# Altium schematic symbol library ETHERNET.SchLib: 7 symbols
Pins are listed as number, name and electrical type; pins without a type are passive.

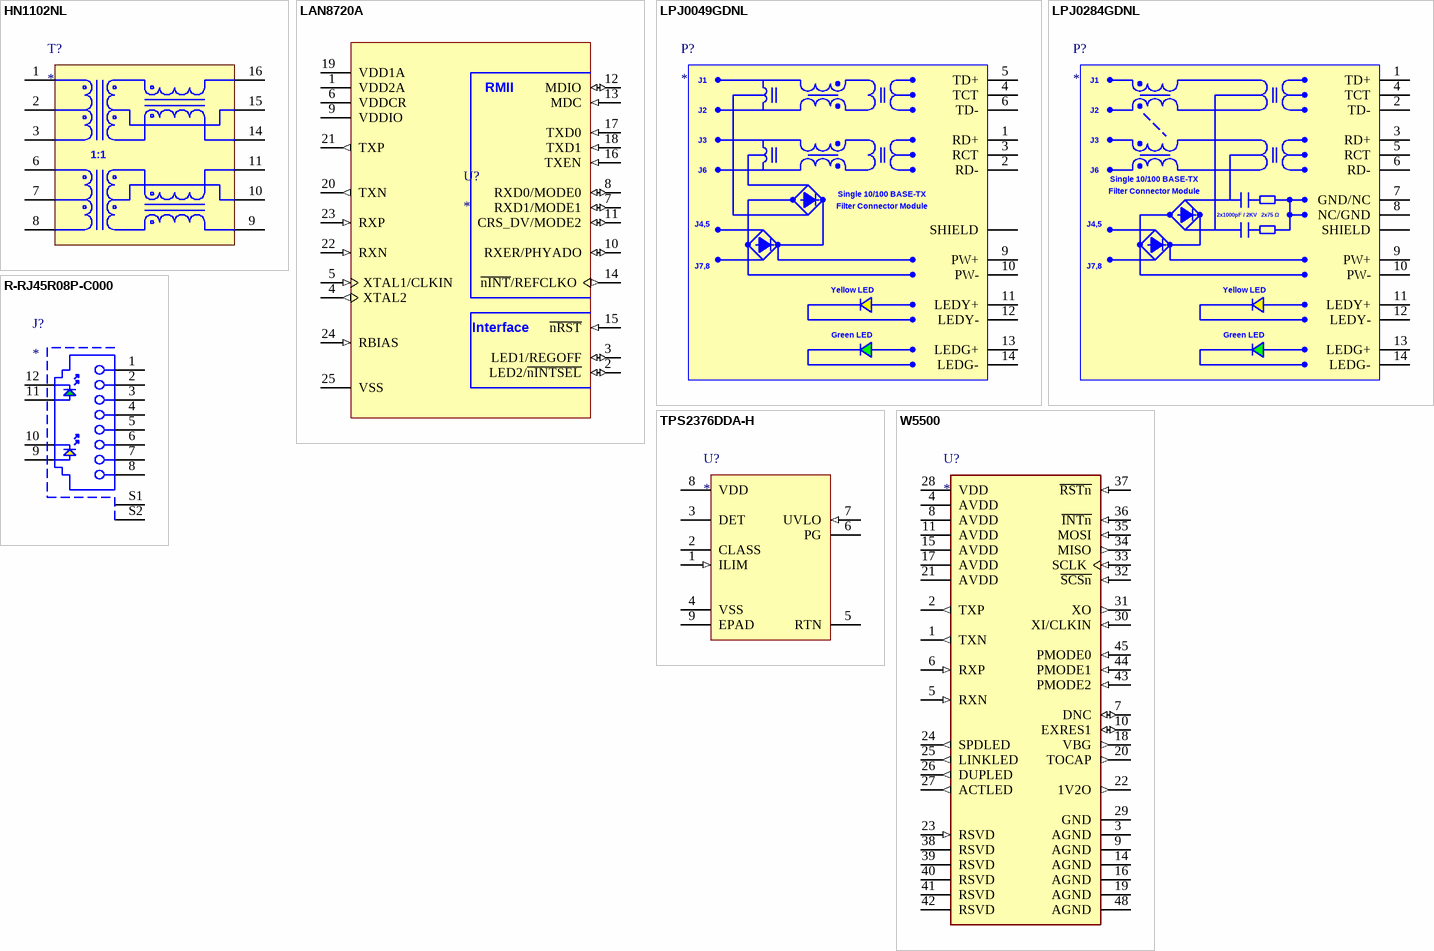
[diagram p0: symbols HN1102NL to W5500]

## HN1102NL
designator T?
footprint H1102NL
pins: 1 TD+, 2 CT, 3 TD-, 6 RD+, 7 CT, 8 RD-, 9 RX-, 10 NC, 11 RX+, 14 TX-, 15 NC, 16 TX+
text: 1:1

## LAN8720A
designator U?
Ethernet Transceivers 1.6V ~ 3.6V IEEE 802.3, 10/100 Base-T/TX PHY RMII QFN-24 Ethernet ICs ROHS; MF: {'manufacturer': u'Microchip Technology'}; MP: LAN8720A-CP; Value: *; Package: None; Price: None; Availability: Unavailable
footprint LAN8720A (Ethernet Transceivers 1.6V ~ 3.6V IEEE 802.3, 10/100 Base-T/TX PHY RMII QFN-24 Ethernet ICs ROHS)
pins: 1 VDD2A (power), 2 LED2/~{nINTSEL} (io), 3 LED1/REGOFF (io), 4 XTAL2 (out), 5 XTAL1/CLKIN (in), 6 VDDCR (power), 7 RXD1/MODE1 (io), 8 RXD0/MODE0 (io), 9 VDDIO (power), 10 RXER/PHYADO (io), 11 CRS_DV/MODE2 (io), 12 MDIO (io), 13 MDC (in), 14 ~{nINT}/REFCLKO (out), 15 ~{nRST} (in), 16 TXEN (in), 17 TXD0 (in), 18 TXD1 (in), 19 VDD1A (power), 20 TXN (out), 21 TXP (out), 22 RXN (in), 23 RXP (in), 24 RBIAS (in), 25 VSS (power)
text: RMII; Interface

## LPJ0049GDNL
designator P?
10/100 Base-T Tab Down Yellow/Green Led 1 Port POE RJ45 Connector
footprint POE_RJ45 (10/100 Base-T Tab Down Yellow/Green Led 1 Port POE RJ45)
pins: 0 SHIELD, 1 RD+, 2 RD-, 3 RCT, 4 TCT, 5 TD+, 6 TD-, 9 PW+, 10 PW-, 11 LEDY+, 12 LEDY-, 13 LEDG+, 14 LEDG-
text: J1; J2; J3; J6; Single 10/100 BASE-TX; Filter Connector Module; J4,5; J7,8; Yellow LED; Green LED

## LPJ0284GDNL
designator P?
10/100 Base-T Tab Down Yellow/Green Led 1 Port POE RJ45 Connector
footprint POE_RJ45 (10/100 Base-T Tab Down Yellow/Green Led 1 Port POE RJ45)
pins: 0 SHIELD, 1 TD+, 2 TD-, 3 RD+, 4 TCT, 5 RCT, 6 RD-, 7 GND/NC, 8 NC/GND, 9 PW+, 10 PW-, 11 LEDY+, 12 LEDY-, 13 LEDG+, 14 LEDG-
text: J1; J2; J3; J6; Single 10/100 BASE-TX; Filter Connector Module; 2x1000pF / 2KV; 2x75 Ω; J4,5; J7,8; Yellow LED; Green LED

## R-RJ45R08P-C000
designator J?
Tab Up Green/Yellow LED 1x1 Port RJ45 Modular Jack without Magnetics
footprint RJ45-8P-LED (R-RJ45R08P-C000)
pins: 1, 2, 3, 4, 5, 6, 7, 8, 9, 10, 11, 12, S1, S2

## TPS2376DDA-H
designator U?
IEEE 802.3af PoE High Power PD Controller, -40 to 85 degC, 8-pin SO PowerPAD (DDA8), Green (RoHS & no Sb/Br)
footprint TPS2376DDA-H
pins: 1 ILIM (in) "Connect a resistor from ILIM to VSS to set the start-up inrush current limit. The equation for calculating the resistor is shown in the detailed pin description section for ILIM.", 2 CLASS "Connect a resistor from CLASS to VSS to set the classification of the powered device(PD). The IEEE classification levels and corresponding resistor values are shown in Table 1.", 3 DET "Connect a 24.9-kohm detection resistor from DET to VDD.", 4 VSS (power) "Return line on the source side of the TPS2376-H from the PSE.", 5 RTN "Switched output side return line used as the low-side reference for the TPS2376-H load.", 6 PG (hiz) "Open-drain, power-good output, active high, referenced to RTN.", 7 UVLO (in) "UVLO comparator input that controls pass-device turn-on and off. Connect UVLO to a resistor divider from VDD to VSS.", 8 VDD (power) "Positive line from the rectified PSE provided input.", 9 EPAD (power) "The PowerPad must be connected to VSS. The VSS copper on the circuit board must be a large fill area to assist in heat dissipation."

## W5500
designator U?
Ethernet Controller 10/100 Base-T/TX PHY SPI Interface 48-LQFP (7x7)
footprint W5500 (Ethernet Controller 10/100 Base-T/TX PHY SPI Interface 48-LQFP (7x7))
pins: 1 TXN (out), 2 TXP (out), 3 AGND (power), 4 AVDD (power), 5 RXN (in), 6 RXP (in), 7 DNC (io), 8 AVDD (power), 9 AGND (power), 10 EXRES1 (io), 11 AVDD (power), 14 AGND (power), 15 AVDD (power), 16 AGND (power), 17 AVDD (power), 18 VBG (out), 19 AGND (power), 20 TOCAP (out), 21 AVDD (power), 22 1V2O (out), 23 RSVD (in), 24 SPDLED (out), 25 LINKLED (out), 26 DUPLED (out), 27 ACTLED (out), 28 VDD (power), 29 GND, 30 XI/CLKIN (in), 31 XO (out), 32 ~{SCSn} (in), 33 SCLK (in), 34 MISO (out), 35 MOSI (in), 36 ~{INTn} (in), 37 ~{RSTn} (in), 38 RSVD, 39 RSVD, 40 RSVD, 41 RSVD, 42 RSVD, 43 PMODE2 (in), 44 PMODE1 (in), 45 PMODE0 (in), 48 AGND (power)